# Altium footprint library Inductor 1280.PcbLib: 1 footprints
Each footprint in its own frame and in the unit in brackets; x right, y up, seen from the top. Pads: shape width x height; smd on the part's side, far side on the other; paste and mask are expansions set on the pad; w line width, h text height; cw(c..) or ccw(c..) is an arc to the next point about the centre after c.
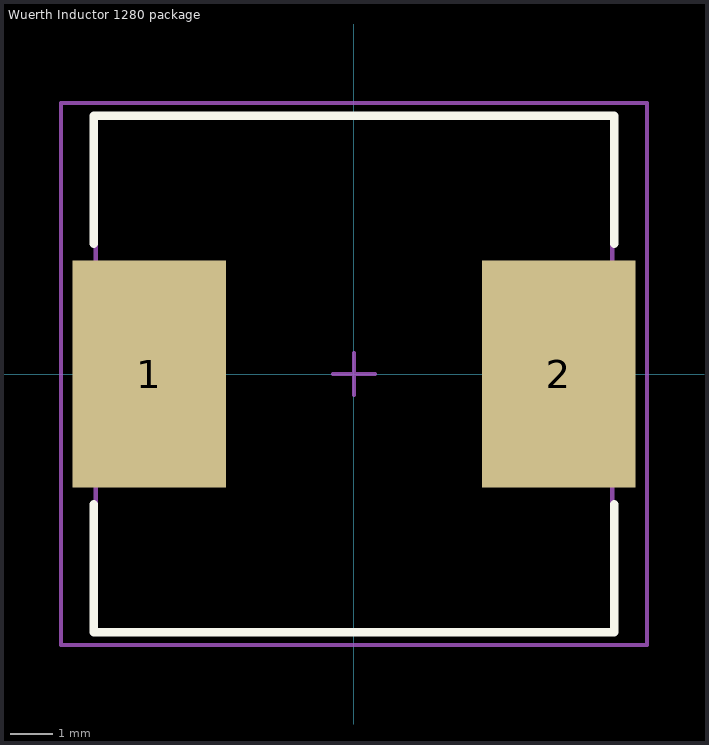
[diagram p0: the footprint, top view; thin cyan lines are the x and y axes]

## Wuerth Inductor 1280 package [mm] "Precision Wire Wound Inductor, 2-Leads, Body 12.0x12.0mm, IPC Medium Density"
height 8
pads (2):
  rect 3.65x5.4 smd: 1(-4.875,0) 2(4.875,0)
Top Overlay:
  lines w0.2: -6.2,-3.1 -6.2,-6.15 6.2,-6.15 6.2,-3.1 ; -6.2,3.1 -6.2,6.15 6.2,6.15 6.2,3.1
Mechanical 13:
  lines w0.1: -6.15,-6.15 6.15,-6.15 6.15,6.15 -6.15,6.15 -6.15,-6.15
Mechanical 15:
  lines w0.1: -0.5,0 0.5,0 ; 0,-0.5 0,0.5 ; -6.975,-6.45 6.975,-6.45 6.975,6.45 -6.975,6.45 -6.975,-6.45
3D body: height 8, standoff 0, extent -6.15,-6.15 6.15,6.15